# Altium integrated library maxstream.IntLib: 2 symbols
Pins are listed as number, name and electrical type; pins without a type are passive.

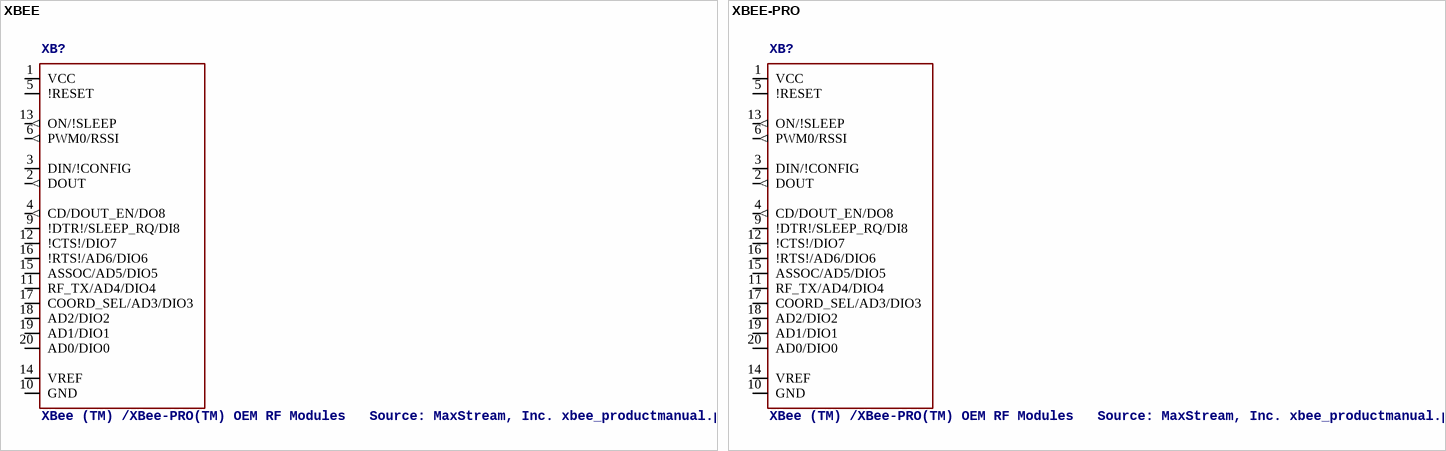
[diagram p0: symbols XBEE to XBEE-PRO]

## XBEE
designator XB?, comment XBee (TM) /XBee-PRO(TM) OEM RF Modules   Source: MaxStream, Inc. xbee_productmanual.pdf
MPN: XBP24-Z7UIT-004; OC_FARNELL: 1751799; OC_NEWARK: 34R5507
footprint XBEE
pins: 1 VCC (power), 2 DOUT (out), 3 DIN/!CONFIG, 4 CD/DOUT_EN/DO8 (out), 5 !RESET, 6 PWM0/RSSI (out), 9 !DTR!/SLEEP_RQ/DI8, 10 GND (power), 11 RF_TX/AD4/DIO4, 12 !CTS!/DIO7, 13 ON/!SLEEP (out), 14 VREF, 15 ASSOC/AD5/DIO5, 16 !RTS!/AD6/DIO6, 17 COORD_SEL/AD3/DIO3, 18 AD2/DIO2, 19 AD1/DIO1, 20 AD0/DIO0

## XBEE-PRO
designator XB?, comment XBee (TM) /XBee-PRO(TM) OEM RF Modules   Source: MaxStream, Inc. xbee_productmanual.pdf
MPN: XBP24-AWI-001; OC_FARNELL: 1337916; OC_NEWARK: 42M2667
footprint XBEE-PRO
pins: 1 VCC (power), 2 DOUT (out), 3 DIN/!CONFIG, 4 CD/DOUT_EN/DO8 (out), 5 !RESET, 6 PWM0/RSSI (out), 9 !DTR!/SLEEP_RQ/DI8, 10 GND (power), 11 RF_TX/AD4/DIO4, 12 !CTS!/DIO7, 13 ON/!SLEEP (out), 14 VREF, 15 ASSOC/AD5/DIO5, 16 !RTS!/AD6/DIO6, 17 COORD_SEL/AD3/DIO3, 18 AD2/DIO2, 19 AD1/DIO1, 20 AD0/DIO0